# Altium footprint library LINUX.PcbLib: 113 footprints (part 4 of 8)
Each footprint in its own frame and in the unit in brackets; x right, y up, seen from the top. Pads: shape width x height; smd on the part's side, far side on the other; paste and mask are expansions set on the pad; w line width, h text height; cw(c..) or ccw(c..) is an arc to the next point about the centre after c.
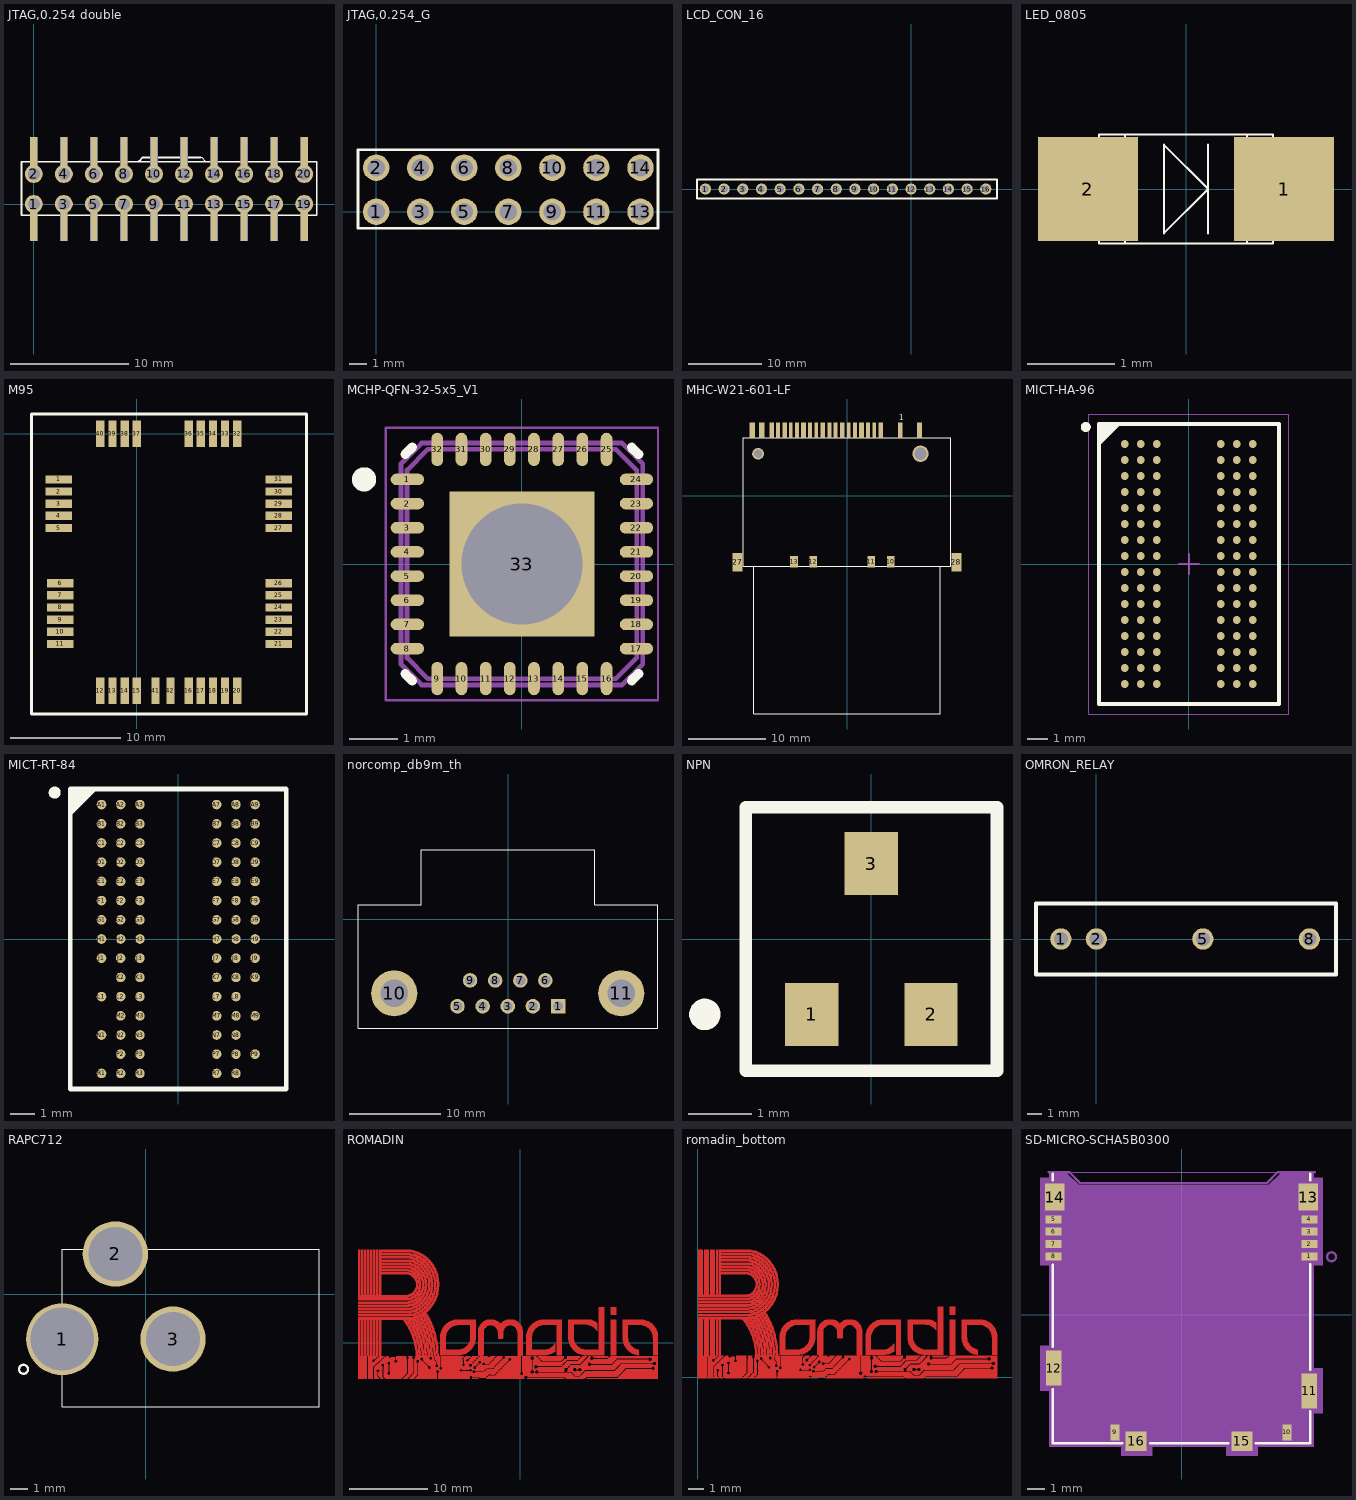
[diagram p3: the footprints below, top view; thin cyan lines are the x and y axes]

## JTAG,0.254 double [mm]
pads (60):
  rect 0.6x2.5 smd mask+0.06: 1(0,-1.873) 2(0,4.413) 3(2.54,-1.873) 4(2.54,4.413) 5(5.08,-1.873) 6(5.08,4.413) 7(7.62,-1.873) 8(7.62,4.413) 9(10.16,-1.873) 10(10.16,4.413) 11(12.7,-1.873) 12(12.7,4.413) 13(15.24,-1.873) 14(15.24,4.413) 15(17.78,-1.873) 16(17.78,4.413) 17(20.32,-1.873) 18(20.32,4.413) 19(22.86,-1.873) 20(22.86,4.413)
  rect 0.6x2.5 smd far side mask+0.06: 1(0,-1.873) 2(0,4.413) 3(2.54,-1.873) 4(2.54,4.413) 5(5.08,-1.873) 6(5.08,4.413) 7(7.62,-1.873) 8(7.62,4.413) 9(10.16,-1.873) 10(10.16,4.413) 11(12.7,-1.873) 12(12.7,4.413) 13(15.24,-1.873) 14(15.24,4.413) 15(17.78,-1.873) 16(17.78,4.413) 17(20.32,-1.873) 18(20.32,4.413) 19(22.86,-1.873) 20(22.86,4.413)
  round 1.524 hole 1.016: 1(0,0) 2(0,2.54) 3(2.54,0) 4(2.54,2.54) 5(5.08,0) 6(5.08,2.54) 7(7.62,0) 8(7.62,2.54) 9(10.16,0) 10(10.16,2.54) 11(12.7,0) 12(12.7,2.54) 13(15.24,0) 14(15.24,2.54) 15(17.78,0) 16(17.78,2.54) 17(20.32,0) 18(20.32,2.54) 19(22.86,0) 20(22.86,2.54)
Top Overlay:
  lines w0.1: 14.1,3.937 14.188,3.937 14.5,3.625
  lines w0.152: 8.9,3.625 9.212,3.937 14.1,3.937 ; -1.05,-0.95 -1.05,3.575 23.925,3.575 23.925,-0.95 -1.05,-0.95

## JTAG,0.254_G [mil]
pads (14):
  round 60 hole 40: 1(0,0) 2(0,100) 3(100,0) 4(100,100) 5(200,0) 6(200,100) 7(300,0) 8(300,100) 9(400,0) 10(400,100) 11(500,0) 12(500,100) 13(600,0) 14(600,100)
Top Overlay:
  lines w6: -41.34,-37.4 639.76,-37.4 639.76,140.75 -41.34,140.75 -41.34,-37.4

## LCD_CON_16 [mil]
pads (16):
  round 60 hole 40: 1(-1100,0) 2(-1000,0) 3(-900,0) 4(-800,0) 5(-700,0) 6(-600,0) 7(-500,0) 8(-400,0) 9(-300,0) 10(-200,0) 11(-100,0) 12(0,0) 13(100,0) 14(200,0) 15(300,0) 16(400,0)
Top Overlay:
  lines w10: -1145,-50 460,-50 460,50 -1145,50 -1145,-50

## LED_0805 [mil]
pads (2):
  rect 45.28x47 smd: 1(44.29,0) 2(-44.29,0)
Top Overlay:
  lines w1: 10,-20 10,20 ; -39.37,-24.61 39.37,-24.61 39.37,24.61 -39.37,24.61 -39.37,-24.61 ; -27.56,-24.61 27.56,-24.61 27.56,24.61 -27.56,24.61 -27.56,-24.61 ; -10,-20 -10,20 10,0 -10,-20

## M95 [mm]
pads (42):
  rect 2.4x0.75 smd: 1(-7.077,-4.15) 2(-7.077,-5.25) 3(-7.077,-6.35) 4(-7.077,-7.45) 5(-7.077,-8.55) 6(-6.95,-13.55) 7(-6.95,-14.65) 8(-6.95,-15.75) 9(-6.95,-16.85) 10(-6.95,-17.95) 11(-6.95,-19.05) 21(12.85,-19.05) 22(12.85,-17.95) 23(12.85,-16.85) 24(12.85,-15.75) 25(12.85,-14.65) 26(12.85,-13.55) 27(12.85,-8.55) 28(12.85,-7.45) 29(12.85,-6.35) 30(12.85,-5.25) 31(12.85,-4.15)
  rect 0.75x2.4 smd: 12(-3.3,-23.3) 13(-2.2,-23.3) 14(-1.1,-23.3) 15(0,-23.3) 16(4.7,-23.3) 17(5.8,-23.3) 18(6.9,-23.3) 19(8,-23.3) 20(9.1,-23.3) 32(9.1,0) 33(8,0) 34(6.9,0) 35(5.8,0) 36(4.7,0) 37(0,0) 38(-1.1,0) 39(-2.2,0) 40(-3.3,0) 41(1.7,-23.3) 42(3.05,-23.3)
Top Overlay:
  lines w0.254: -9.525,-25.4 15.367,-25.4 15.367,1.778 -9.525,1.778 -9.525,-25.4

## MCHP-QFN-32-5x5_V1 [mm] "QFN, 32-Leads, Body 5x5mm, Pitch 0.5mm, Thermal Pad 3.2x3.2mm"
height 1
pads (33):
  oval 0.69x0.24 smd mask+0.132: 1(-2.37,1.75) 2(-2.37,1.25) 3(-2.37,0.75) 4(-2.37,0.25) 5(-2.37,-0.25) 6(-2.37,-0.75) 7(-2.37,-1.25) 8(-2.37,-1.75) 17(2.37,-1.75) 18(2.37,-1.25) 19(2.37,-0.75) 20(2.37,-0.25) 21(2.37,0.25) 22(2.37,0.75) 23(2.37,1.25) 24(2.37,1.75)
  oval 0.24x0.69 smd mask+0.132: 9(-1.75,-2.37) 10(-1.25,-2.37) 11(-0.75,-2.37) 12(-0.25,-2.37) 13(0.25,-2.37) 14(0.75,-2.37) 15(1.25,-2.37) 16(1.75,-2.37) 25(1.75,2.37) 26(1.25,2.37) 27(0.75,2.37) 28(0.25,2.37) 29(-0.25,2.37) 30(-0.75,2.37) 31(-1.25,2.37) 32(-1.75,2.37)
  rect 3x3 hole 2.5 square mask+0.132: 33(0,0)
Top Overlay:
  circle w0.25: c-3.265,1.75 r0.125
  lines w0.2: -2.413,-2.27 -2.27,-2.413 ; -2.413,2.27 -2.27,2.413 ; 2.27,-2.413 2.413,-2.27 ; 2.27,2.413 2.413,2.27
Mechanical 13:
  lines w0.1: -2.5,-2.074 -2.074,-2.5 2.074,-2.5 2.5,-2.074 2.5,2.074 2.074,2.5 -2.074,2.5 -2.5,2.074 -2.5,-2.074 ; -2.375,-1.943 -2.375,1.943 -1.943,2.375 1.943,2.375 2.375,1.943 2.375,-1.943 1.943,-2.375 -1.943,-2.375 -2.375,-1.943
Mechanical 15:
  lines w0.05: -2.815,-2.815 2.815,-2.815 2.815,2.815 -2.815,2.815 -2.815,-2.815
  lines w0.1: -0.5,0 0.5,0 ; 0,-0.5 0,0.5

## MHC-W21-601-LF [mm] "MHC-W21-601-LF"
pads (30):
  rect 0.6x2 smd: 1(6.875,8.5) 2(4.375,8.5) 3(1.875,8.5) 4(-0.625,8.5) 5(-3.125,8.5) 6(-5.625,8.5) 7(-8.05,8.5) 8(-9.75,8.5) 9(9.375,8.5)
  rect 1x1.5 smd: 10(5.65,-8.5) 11(3.15,-8.5) 12(-4.35,-8.5) 13(-6.85,-8.5)
  rect 0.7x2 smd: 14(-12.25,8.5) 15(-11.05,8.5)
  rect 0.5x2 smd: 16(-7.27,8.5) 17(-6.475,8.5) 18(-4.775,8.5) 19(-1.475,8.5) 20(0.225,8.5) 21(1.025,8.5) 22(2.725,8.5) 23(3.525,8.5) 24(-8.9,8.5) 25(-3.975,8.5) 26(-2.275,8.5)
  rect 1.3x2.4 smd: 27(-14.15,-8.55) 28(14.15,-8.55)
  round 1.524 hole 1.092: " "(-11.5,5.45)
  round 2.108 hole 1.6: " "(9.5,5.45)
Top Overlay:
  lines w0.025: -13.4,-9.1 -13.4,7.5 13.4,7.5 13.4,-9.1 -13.4,-9.1 ; -12.05,-28.2 -12.05,-9.1 12.05,-9.1 12.05,-28.2 -12.05,-28.2
  text "1" at 6.706,9.804 h0.79
Multi-Layer:
  region: 2.35,-6.75 2.35,-3.75 6.45,-3.75 6.45,-6.75
  region: -7.65,-6.75 -7.65,-3.75 -3.55,-3.75 -3.55,-6.75

## MICT-HA-96 [mm] "BGA, 96-Balls, Body 14x9mm, Pitch 0.8mm"
pads (96):
  round 0.4 smd mask+0.1: A1(-3.2,6) A2(-2.4,6) A3(-1.6,6) A7(1.6,6) A8(2.4,6) A9(3.2,6) B1(-3.2,5.2) B2(-2.4,5.2) B3(-1.6,5.2) B7(1.6,5.2) B8(2.4,5.2) B9(3.2,5.2) C1(-3.2,4.4) C2(-2.4,4.4) C3(-1.6,4.4) C7(1.6,4.4) C8(2.4,4.4) C9(3.2,4.4) D1(-3.2,3.6) D2(-2.4,3.6) D3(-1.6,3.6) D7(1.6,3.6) D8(2.4,3.6) D9(3.2,3.6) E1(-3.2,2.8) E2(-2.4,2.8) E3(-1.6,2.8) E7(1.6,2.8) E8(2.4,2.8) E9(3.2,2.8) F1(-3.2,2) F2(-2.4,2) F3(-1.6,2) F7(1.6,2) F8(2.4,2) F9(3.2,2) G1(-3.2,1.2) G2(-2.4,1.2) G3(-1.6,1.2) G7(1.6,1.2) G8(2.4,1.2) G9(3.2,1.2) H1(-3.2,0.4) H2(-2.4,0.4) H3(-1.6,0.4) H7(1.6,0.4) H8(2.4,0.4) H9(3.2,0.4) J1(-3.2,-0.4) J2(-2.4,-0.4) J3(-1.6,-0.4) J7(1.6,-0.4) J8(2.4,-0.4) J9(3.2,-0.4) K1(-3.2,-1.2) K2(-2.4,-1.2) K3(-1.6,-1.2) K7(1.6,-1.2) K8(2.4,-1.2) K9(3.2,-1.2) L1(-3.2,-2) L2(-2.4,-2) L3(-1.6,-2) L7(1.6,-2) L8(2.4,-2) L9(3.2,-2) M1(-3.2,-2.8) M2(-2.4,-2.8) M3(-1.6,-2.8) M7(1.6,-2.8) M8(2.4,-2.8) M9(3.2,-2.8) N1(-3.2,-3.6) N2(-2.4,-3.6) N3(-1.6,-3.6) N7(1.6,-3.6) N8(2.4,-3.6) N9(3.2,-3.6) P1(-3.2,-4.4) P2(-2.4,-4.4) P3(-1.6,-4.4) P7(1.6,-4.4) P8(2.4,-4.4) P9(3.2,-4.4) R1(-3.2,-5.2) R2(-2.4,-5.2) R3(-1.6,-5.2) R7(1.6,-5.2) R8(2.4,-5.2) R9(3.2,-5.2) T1(-3.2,-6) T2(-2.4,-6) T3(-1.6,-6) T7(1.6,-6) T8(2.4,-6) T9(3.2,-6)
Top Overlay:
  circle w0.25: c-5.15,6.85 r0.125
  region: -3.5,7 -4.5,6 -4.5,7
  lines w0.2: -4.5,6 -3.5,7 ; -4.5,-7 -4.5,7 4.5,7 4.5,-7 -4.5,-7
Mechanical 13:
  lines w0.1: -4.5,-7 -4.5,7 4.5,7 4.5,-7 -4.5,-7
Mechanical 15:
  lines w0.05: -5,-7.5 -5,7.5 5,7.5 5,-7.5 -5,-7.5
  lines w0.1: -0.5,0 0.5,0 ; 0,-0.5 0,0.5
3D body: height 0.1, standoff 0, extent -4.5,-7 4.5,7

## MICT-RT-84 [mm] "BGA, 84-Balls, Body 12.5x9mm, Pitch 0.8mm"
pads (84):
  round 0.4 smd: A1(-3.2,5.6) A2(-2.4,5.6) A3(-1.6,5.6) A7(1.6,5.6) A8(2.4,5.6) A9(3.2,5.6) B1(-3.2,4.8) B2(-2.4,4.8) B3(-1.6,4.8) B7(1.6,4.8) B8(2.4,4.8) B9(3.2,4.8) C1(-3.2,4) C2(-2.4,4) C3(-1.6,4) C7(1.6,4) C8(2.4,4) C9(3.2,4) D1(-3.2,3.2) D2(-2.4,3.2) D3(-1.6,3.2) D7(1.6,3.2) D8(2.4,3.2) D9(3.2,3.2) E1(-3.2,2.4) E2(-2.4,2.4) E3(-1.6,2.4) E7(1.6,2.4) E8(2.4,2.4) E9(3.2,2.4) F1(-3.2,1.6) F2(-2.4,1.6) F3(-1.6,1.6) F7(1.6,1.6) F8(2.4,1.6) F9(3.2,1.6) G1(-3.2,0.8) G2(-2.4,0.8) G3(-1.6,0.8) G7(1.6,0.8) G8(2.4,0.8) G9(3.2,0.8) H1(-3.2,0) H2(-2.4,0) H3(-1.6,0) H7(1.6,0) H8(2.4,0) H9(3.2,0) J1(-3.2,-0.8) J2(-2.4,-0.8) J3(-1.6,-0.8) J7(1.6,-0.8) J8(2.4,-0.8) J9(3.2,-0.8) K2(-2.4,-1.6) K3(-1.6,-1.6) K7(1.6,-1.6) K8(2.4,-1.6) K9(3.2,-1.6) L1(-3.2,-2.4) L2(-2.4,-2.4) L3(-1.6,-2.4) L7(1.6,-2.4) L8(2.4,-2.4) M2(-2.4,-3.2) M3(-1.6,-3.2) M7(1.6,-3.2) M8(2.4,-3.2) M9(3.2,-3.2) N1(-3.2,-4) N2(-2.4,-4) N3(-1.6,-4) N7(1.6,-4) N8(2.4,-4) P2(-2.4,-4.8) P3(-1.6,-4.8) P7(1.6,-4.8) P8(2.4,-4.8) P9(3.2,-4.8) R1(-3.2,-5.6) R2(-2.4,-5.6) R3(-1.6,-5.6) R7(1.6,-5.6) R8(2.4,-5.6)
Top Overlay:
  circle w0.25: c-5.15,6.1 r0.125
  region: -3.5,6.25 -4.5,5.25 -4.5,6.25
  lines w0.2: -4.5,5.25 -3.5,6.25 ; -4.5,-6.25 -4.5,6.25 4.5,6.25 4.5,-6.25 -4.5,-6.25

## norcomp_db9m_th [mil] "NORCOMP_DB9M_TH"
pads (11):
  rect 63x63 hole 43: 1(215,-378)
  round 63 hole 43: 2(106,-378) 3(-3,-378) 4(-112,-378) 5(-221,-378) 6(160,-266) 7(51.5,-266) 8(-57.5,-266) 9(-166.5,-266)
  round 200 hole 120: 10(-495,-322) 11(489,-322)
Top Overlay:
  lines w1: -652,-474 648,-474 648,61 373,61 373,301 -377,301 -377,61 -652,61 -652,-474

## NPN [mm]
height 7.2
pads (3):
  rect 0.85x1 smd: 1(-0.95,-1.2) 2(0.95,-1.2) 3(0,1.2)
Top Overlay:
  circle w0.25: c-2.65,-1.2 r0.125
  lines w0.2: -2,-2.1 -2,2.1 2,2.1 2,-2.1 -2,-2.1

## OMRON_RELAY [mil]
pads (4):
  round 60 hole 40: 1(-100,0) 2(0,0) 5(300,0) 8(600,0)
Top Overlay:
  lines w10: -170,-100 675,-100 675,100 -170,100 -170,-100

## RAPC712 [mil] "RAPC712"
pads (3):
  round 160 hole 140: 1(-185,-100)
  round 145 hole 120: 2(-67,89) 3(61,-100)
Top Overlay:
  circle w5: c-271,-167 r10
  lines w1: -185,-250 385,-250 385,100 -185,100 -185,-250

## ROMADIN [mm]
Top Layer:
  drawing of 5513 lines, arcs and shapes, not listed
Top Solder:
  drawing of 5513 lines, arcs and shapes, not listed

## romadin_bottom [mm]
Top Layer:
  drawing of 11026 lines, arcs and shapes, not listed
Top Solder:
  drawing of 5513 lines, arcs and shapes, not listed

## SD-MICRO-SCHA5B0300 [mil] "SD-MICRO-SCHA5B0300"
pads (16):
  rect 36x18 smd mask+2.36: 1(285.72,130) 2(285.72,157.56) 3(285.72,185.12) 4(285.72,212.68) 5(-285.72,212.68) 6(-285.72,185.12) 7(-285.72,157.56) 8(-285.72,130)
  rect 20x35 smd mask+2.36: 9(-148.62,-263.28) 10(235.24,-263.28)
  rect 35x79 smd mask+2.36: 11(285.43,-170.59) 12(-285.43,-119.41)
  rect 44x60 smd mask+2.36: 13(283.32,262.48) 14(-283.32,262.48)
  rect 47x43 smd mask+2.36: 15(134.84,-282.91) 16(-101.37,-282.91)
Top Overlay:
  lines w5: -287.5,-167 -287.5,-287.5 -132.5,-287.5 ; -287.5,-72.5 -287.5,112.05 ; -287.5,299.5 -287.5,315 ; -70,-287.5 104.5,-287.5 ; 165.5,-287.5 287.5,-287.5 287.5,-215.5 ; 287.5,-123 287.5,113 ; 287.5,299.5 287.5,315
Mechanical 5:
  lines w5: -297.15,317.59 -250.21,317.59 -226.56,293.97 190.76,293.97 214.41,317.59 297.85,317.59
Mechanical 16:
  circle w5: c335,129 r10
  region: 220,315 195,290 -230,290 -255,315 -295,315 -295,305 -315,305 -315,110 -295,110 -295,-70 -315,-70 -315,-170 -295,-170 -295,-295 -135,-295 -135,-315 -65,-315 -65,-295 100,-295 100,-315 170,-315 170,-295 295,-295 295,-220 315,-220 315,-120 295,-120 295,110 315,110 315,305 295,305 295,315
  lines w1: -285,-284.82 285,-284.82 285,317.57 -285,317.57 -285,-284.82
Mechanical 32:
  text "11" at 293.3,-170.59 h9.84
  text "14" at -275.45,262.48 h9.84
  text "13" at 291.19,262.48 h9.84
  text "15" at 142.71,-282.91 h9.84
  text "12" at -277.56,-119.41 h9.84
  text "16" at -93.5,-282.91 h9.84
  text "1" at 289.66,130 h9.84
  text "8" at -281.78,130 h9.84
  text "7" at -281.78,157.56 h9.84
  text "5" at -281.78,212.68 h9.84
  text "3" at 289.66,185.12 h9.84
  text "2" at 289.66,157.56 h9.84
  text "10" at 243.11,-263.28 h9.84
  text "9" at -144.68,-263.28 h9.84
  text "6" at -281.78,185.12 h9.84
  text "4" at 289.66,212.68 h9.84
  text "X" at 92.5,52.18 h40.16
  text "X" at 92.5,52.18 h40.16
  text "SCHA5B0200" at 92.5,52.18 h40.16